# EAGLE library part SPARKFUN_PRO_MICRO_3.3V (library airball)
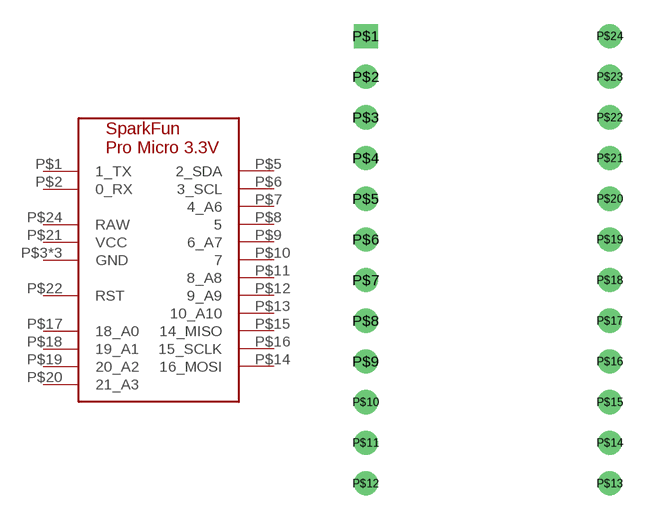
[diagram p16: symbol with the pads of SPARKFUN_PRO_MICRO_3.3V; footprint SPARKFUN_PRO_MICRO_3.3V]

Designator prefix -

## SPARKFUN_PRO_MICRO_3.3V  [SPARKFUN_PRO_MICRO_3.3V]
P$1  1_TX
P$2  0_RX
P$3  GND
P$4  GND
P$5  2_SDA
P$6  3_SCL
P$7  4_A6
P$8  5
P$9  6_A7
P$10  7
P$11  8_A8
P$12  9_A9
P$13  10_A10
P$14  16_MOSI
P$15  14_MISO
P$16  15_SCLK
P$17  18_A0
P$18  19_A1
P$19  20_A2
P$20  21_A3
P$21  VCC
P$22  RST
P$23  GND
P$24  RAW

## Footprint SPARKFUN_PRO_MICRO_3.3V (pad centres in mm)
drill 1 square: P$1 -7.62,13.97
drill 1: P$2 -7.62,11.43; P$3 -7.62,8.89; P$4 -7.62,6.35; P$5 -7.62,3.81; P$6 -7.62,1.27; P$7 -7.62,-1.27; P$8 -7.62,-3.81; P$9 -7.62,-6.35; P$10 -7.62,-8.89; P$11 -7.62,-11.43; P$12 -7.62,-13.97; P$13 7.62,-13.97; P$14 7.62,-11.43; P$15 7.62,-8.89; P$16 7.62,-6.35; P$17 7.62,-3.81; P$18 7.62,-1.27; P$19 7.62,1.27; P$20 7.62,3.81; P$21 7.62,6.35; P$22 7.62,8.89; P$23 7.62,11.43; P$24 7.62,13.97